# Altium schematic symbol library Connectors.SchLib: 6 symbols
Pins are listed as number, name and electrical type; pins without a type are passive.

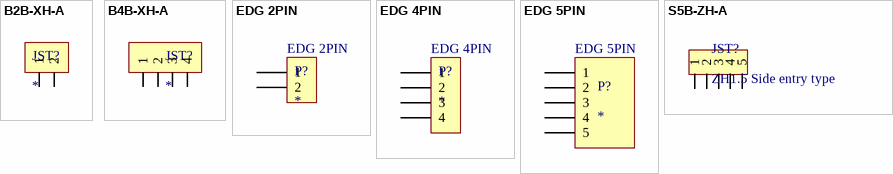
[diagram p0: symbols B2B-XH-A to S5B-ZH-A]

## B2B-XH-A
designator JST?
JST XH2.5mm side entry type, Through hole, 2 pins; ComponentLink1Description: Datasheet; ComponentLink1URL: https://www.farnell.com/datasheets/5448.pdf
footprint XH2.5_CONNECTOR_2PIN (JST XH2.5mm top entry type connector 4 PINS)
pins: 1, 2

## B4B-XH-A
designator JST?
JST XH2.5mm side entry type, Through hole, 4 pins; ComponentLink1Description: Datasheet; ComponentLink1URL: https://www.farnell.com/datasheets/5448.pdf
footprint XH2.5_CONNECTOR_4PIN (JST XH2.5mm top entry type connector 4 PINS)
pins: 1, 2, 3, 4

## EDG 2PIN
designator P?
Screw Terminal block 5mm 2-way; ComponentLink1Description: Datasheet; ComponentLink1URL: https://www.rcscomponents.kiev.ua/datasheets/2EDGK.pdf; ComponentLink2Description: Measures; ComponentLink2URL: http://www.handsontec.com/dataspecs/connector/KF2EDG.pdf
footprint EDG 2PIN (Screw Terminal block 5mm 2-way)
pins: 1, 2

## EDG 4PIN
designator P?
Screw Terminal block 5mm 4-way; ComponentLink1Description: Datasheet; ComponentLink1URL: https://www.rcscomponents.kiev.ua/datasheets/2EDGK.pdf; ComponentLink2Description: Measures; ComponentLink2URL: http://www.handsontec.com/dataspecs/connector/KF2EDG.pdf
footprint EDG 4PIN (Screw Terminal block 5mm 4-way)
pins: 1, 2, 3, 4

## EDG 5PIN
designator P?
Screw Terminal block 5mm 5-way; ComponentLink1Description: 3D model; ComponentLink1URL: https://grabcad.com/library/screw-terminal-block-5mm-2; ComponentLink2Description: Datasheet; ComponentLink2URL: https://www.rcscomponents.kiev.ua/datasheets/2EDGK.pdf; ComponentLink3Description: Measures; ComponentLink3URL: http://www.handsontec.com/dataspecs/connector/KF2EDG.pdf
footprint EDG 5PIN (Screw Terminal block 5mm 5-way)
pins: 1, 2, 3, 4, 5

## S5B-ZH-A
designator JST?, comment ZH1.5 Side entry type
Side entry type, XH1.5 JST connector,; ComponentLink1Description: Datasheet; ComponentLink1URL: https://www.digikey.com/htmldatasheets/production/624751/0/0/1/zh-connector.html
footprint ZH1.5_connector (Footprint created for JST connector)
pins: 1, 2, 3, 4, 5